# Altium footprint library LM3405A SOT23-6_1.PcbLib: 1 footprints
Each footprint in its own frame and in the unit in brackets; x right, y up, seen from the top. Pads: shape width x height; smd on the part's side, far side on the other; paste and mask are expansions set on the pad; w line width, h text height; cw(c..) or ccw(c..) is an arc to the next point about the centre after c.
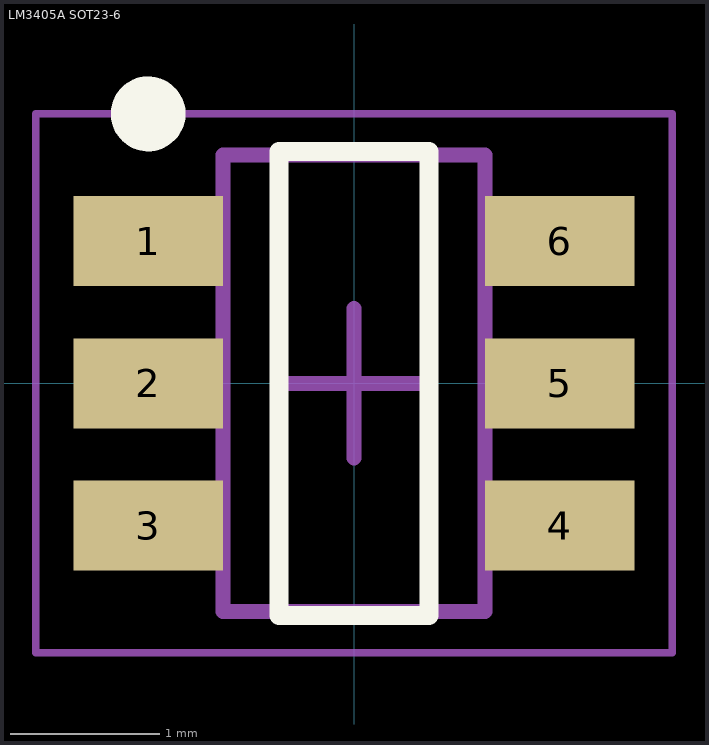
[diagram p0: the footprint, top view; thin cyan lines are the x and y axes]

## LM3405A SOT23-6 [mm]
height 1.1
pads (6):
  rect 1x0.6 smd: 1(-1.375,0.95) 2(-1.375,0) 3(-1.375,-0.95) 4(1.375,-0.95) 5(1.375,0) 6(1.375,0.95)
Top Overlay:
  circle w0.25: c-1.375,1.8 r0.125
  lines w0.127: -0.5,-1.55 -0.5,1.55 0.5,1.55 0.5,-1.55 -0.5,-1.55
Mechanical 13:
  lines w0.1: -0.875,-1.525 0.875,-1.525 0.875,1.525 -0.875,1.525 -0.875,-1.525
Mechanical 15:
  lines w0.05: -2.125,-1.8 2.125,-1.8 2.125,1.8 -2.125,1.8 -2.125,-1.8
  lines w0.1: -0.5,0 0.5,0 ; 0,-0.5 0,0.5
3D body "LM3405A SOT23-6.step": height 1.1, standoff 0, extent -1.525,-1.525 1.525,1.525